# Altium footprint library CAPPRD600W90D1200H2100.PcbLib: 1 footprints
Each footprint in its own frame and in the unit in brackets; x right, y up, seen from the top. Pads: shape width x height; smd on the part's side, far side on the other; paste and mask are expansions set on the pad; w line width, h text height; cw(c..) or ccw(c..) is an arc to the next point about the centre after c.
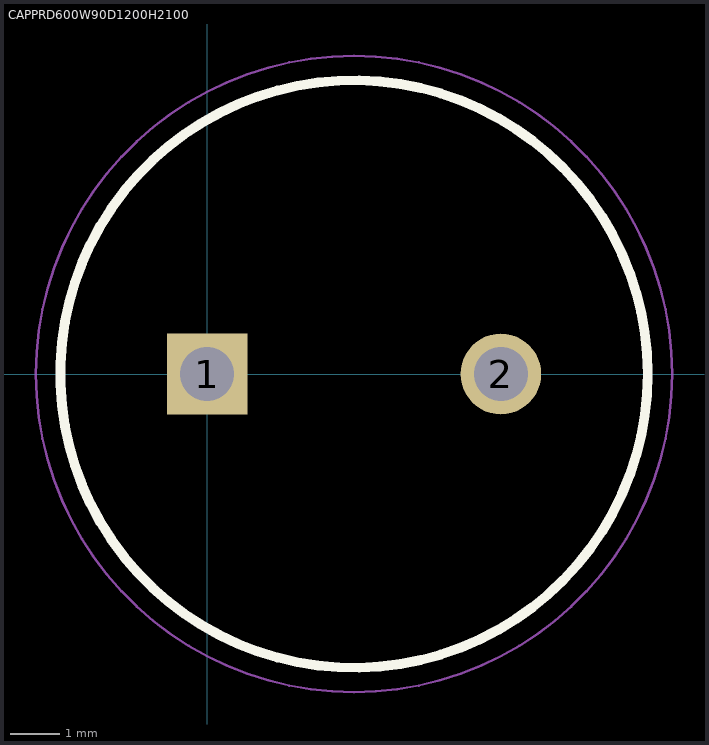
[diagram p0: the footprint, top view; thin cyan lines are the x and y axes]

## CAPPRD600W90D1200H2100 [mm]
pads (2):
  rect 1.65x1.65 / inner round 1.65 / far side rect 1.65x1.65 hole 1.1: 1(0,0)
  round 1.65 hole 1.1: 2(6,0)
Top Overlay:
  circle w0.2: c3,0 r6
Mechanical 15:
  circle w0.1: c3,0 r6
Mechanical 20:
  circle w0.05: c3,0 r6.5